# Altium schematic symbol library CP_CubePilot.SCHLIB: 1 symbol
Pins are listed as number, name and electrical type; pins without a type are passive.

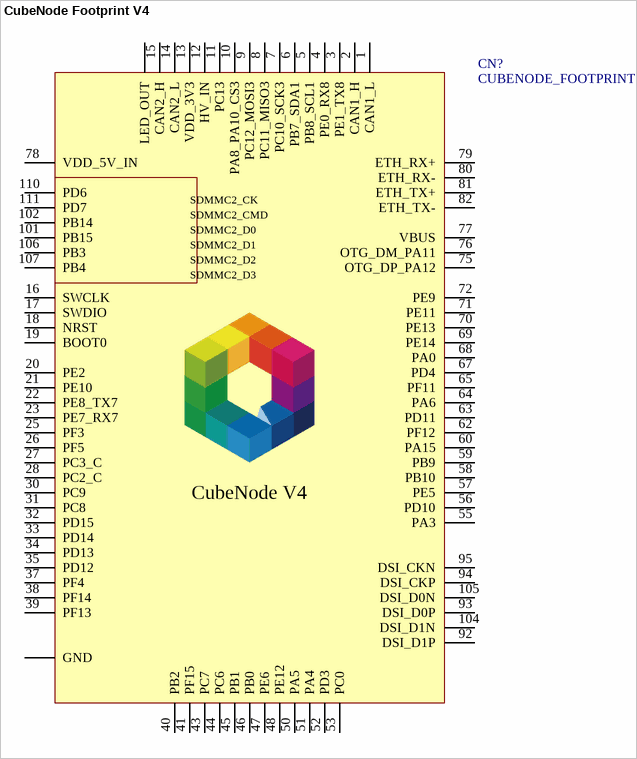
[diagram p0: symbol CubeNode Footprint V4]

## CubeNode Footprint V4
designator CN?, comment CUBENODE_FOOTPRINT
V4 CubeNode Footprint
pins: 1 CAN1_L, 2 CAN1_H, 3 PE1_TX8, 4 PE0_RX8, 5 PB8_SCL1, 6 PB7_SDA1, 7 PC10_SCK3, 8 PC11_MISO3, 9 PC12_MOSI3, 10 PA8_PA10_CS3, 11 PC13, 12 HV_IN, 13 VDD_3V3, 14 CAN2_L, 15 CAN2_H, 16 SWCLK, 17 SWDIO, 18 NRST, 19 BOOT0, 20 PE2, 21 PE10, 22 PE8_TX7, 23 PE7_RX7, 24 GND, 25 PF3, 26 PF5, 27 PC3_C, 28 PC2_C, 30 PC9, 31 PC8, 32 PD15, 33 PD14, 34 PD13, 35 PD12, 37 PF4, 38 PF14, 39 PF13, 40 PB2, 41 PF15, 43 PC7, 44 PC6, 45 PB1, 46 PB0, 47 PE6, 48 PE12, 50 PA5, 51 PA4, 52 PD3, 53 PC0, 55 PA3, 56 PD10, 57 PE5, 58 PB10, 59 PB9, 60 PA15, 62 PF12, 63 PD11, 64 PA6, 65 PF11, 67 PD4, 68 PA0, 69 PE14, 70 PE13, 71 PE11, 72 PE9, 75 OTG_DP_PA12, 76 OTG_DM_PA11, 77 VBUS, 78 VDD_5V_IN, 79 ETH_RX+, 80 ETH_RX-, 81 ETH_TX+, 82 ETH_TX-, 92 DSI_D1P, 93 DSI_D0P, 94 DSI_CKP, 95 DSI_CKN, 101 PB15, 102 PB14, 104 DSI_D1N, 105 DSI_D0N, 106 PB3, 107 PB4, 110 PD6, 111 PD7, LED LED_OUT
text: SDMMC2_CK; SDMMC2_CMD; SDMMC2_D0; SDMMC2_D1; SDMMC2_D2; SDMMC2_D3; CubeNode V4